# Altium footprint library Footprint_Touchpads.PcbLib: 3 footprints
Each footprint in its own frame and in the unit in brackets; x right, y up, seen from the top. Pads: shape width x height; smd on the part's side, far side on the other; paste and mask are expansions set on the pad; w line width, h text height; cw(c..) or ccw(c..) is an arc to the next point about the centre after c.
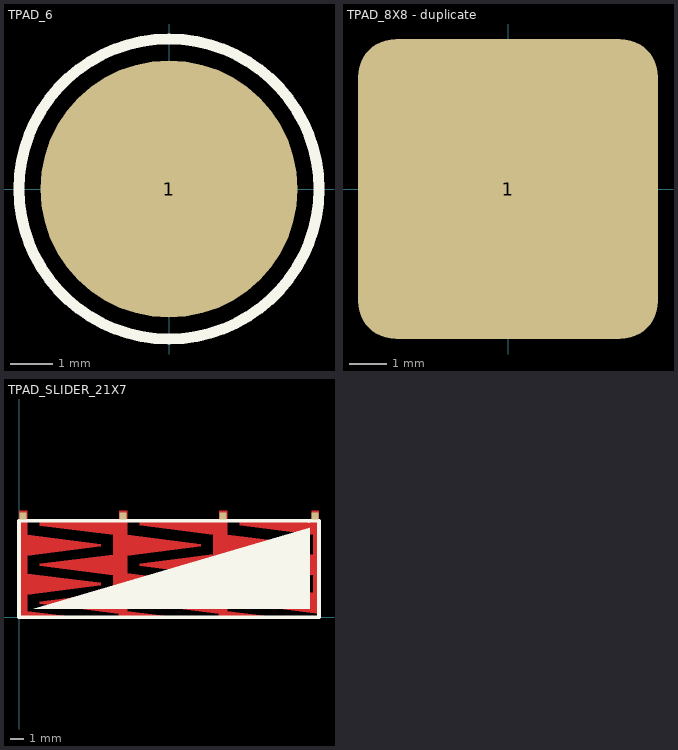
[diagram p0: the footprints below, top view; thin cyan lines are the x and y axes]

## TPAD_6 [mm] "Touch Pad 6mm diameter"
pads (1):
  round 6 smd: 1(0,0)
Top Overlay:
  circle w0.254: c0,0 r3.5

## TPAD_8X8 - duplicate [mm] "Touch Pad 8mm x 8mm"
pads (1):
  rrect25% 8x8 smd: 1(0,0)

## TPAD_SLIDER_21X7 [mm] "Touch Pad Slider 21mm x 7mm"
pads (4):
  rect 0.5x0.5 smd: 1(0.3,7.366) 1(21.463,7.366) 2(7.55,7.366) 3(14.8,7.366)
Top Layer:
  rectangle: 21.209,7.009 21.75,7.747
  rectangle: 14.5,7.004 15.101,7.747
  rectangle: 0,6.994 0.601,7.747
  rectangle: 7.25,6.999 7.851,7.747
  region: 15.99,7.009 15.99,6.671 21.324,5.99 21.324,4.57 15.991,3.891 15.991,3.744 21.324,3.065 21.324,1.83 15.99,1.151 15.99,1.001 21.75,0.268 21.75,7.009
  region: 14.5,7.004 14.5,0.01 18.639,0.01 15.101,0.46 15.101,1.67 20.434,2.349 20.434,2.515 15.101,3.194 15.101,4.494 20.435,5.173 20.435,5.325 15.101,6.006 15.101,7.004
  region: 8.74,7.004 8.74,6.666 14.074,5.985 14.074,4.565 8.741,3.887 8.741,3.739 14.074,3.06 14.074,1.825 8.74,1.146 8.74,0.996 14.5,0.263 14.5,7.004
  region: 7.25,6.999 7.25,0.005 11.389,0.005 7.851,0.455 7.851,1.665 13.184,2.344 13.184,2.51 7.851,3.189 7.851,4.489 13.185,5.168 13.185,5.32 7.851,6.001 7.851,6.999
  region: 1.49,6.999 1.49,6.661 6.824,5.98 6.824,4.56 1.491,3.882 1.491,3.734 6.824,3.055 6.824,1.82 1.49,1.141 1.49,0.991 7.25,0.258 7.25,6.999
  region: 0,6.994 0,0 4.139,0 0.601,0.45 0.601,1.66 5.934,2.339 5.934,2.505 0.602,3.184 0.601,4.484 5.935,5.163 5.935,5.315 0.601,5.996 0.601,6.994
Top Overlay:
  region: 1.069,0.635 21.082,0.635 21.082,6.491
  lines w0.254: 21,6.985 20.985,7 ; 21.717,0 17.5,0 10.5,0 3.5,0 0,0 0,7 3.5,7 10.5,7 17.5,7 20.985,7 ; 21.717,7 20.985,7 ; 21.75,0 21.75,7